# Altium footprint library PowerLib.PcbLib: 17 footprints (part 1 of 2)
Each footprint in its own frame and in the unit in brackets; x right, y up, seen from the top. Pads: shape width x height; smd on the part's side, far side on the other; paste and mask are expansions set on the pad; w line width, h text height; cw(c..) or ccw(c..) is an arc to the next point about the centre after c.
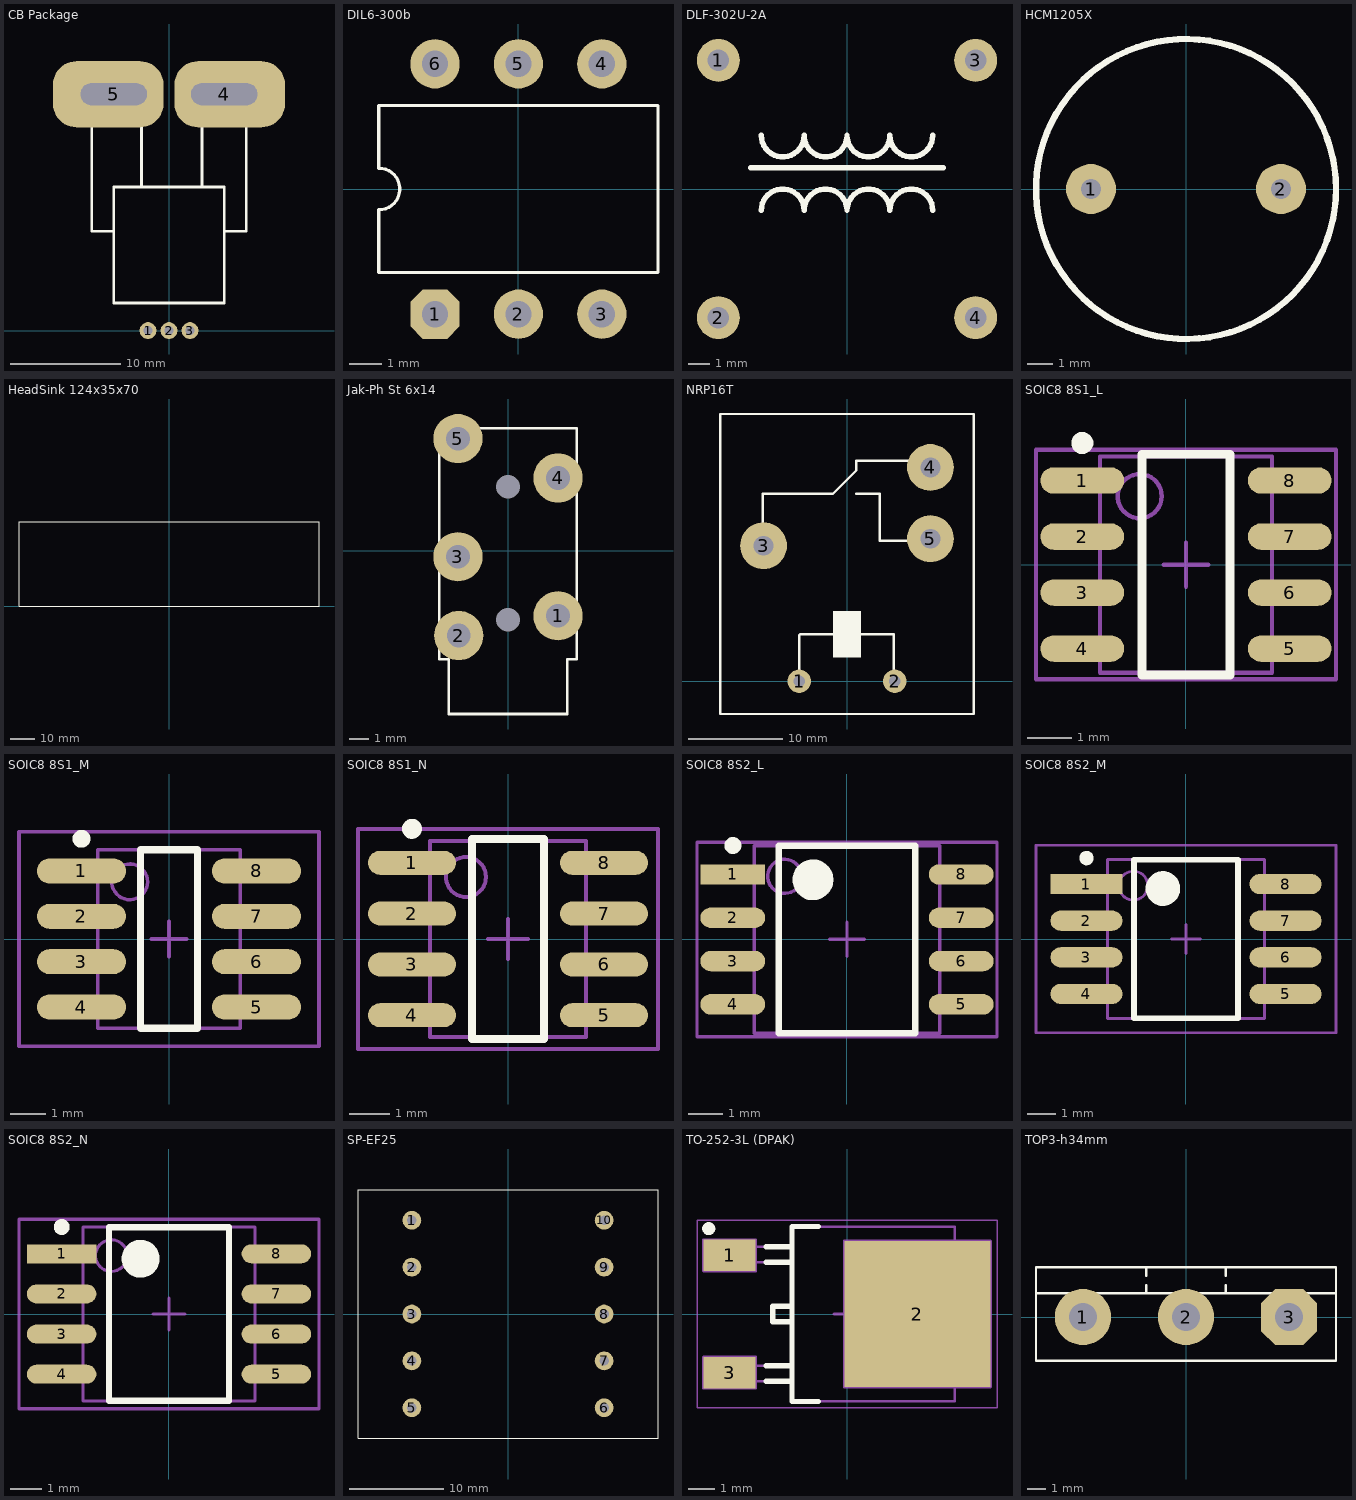
[diagram p0: the footprints below, top view; thin cyan lines are the x and y axes]

## CB Package [mm]
height 10
pads (5):
  round 1.524 hole 0.8: 1(-1.9,0) 2(0,0) 3(1.9,0)
  rrect70% 10x6 hole 2 slot 6 at 0 deg copper offset 0.5,0: 4(5,21.4)
  rrect70% 10x6 hole 2 slot 6 at 0 deg copper offset -0.5,0: 5(-5,21.4)
Top Overlay:
  lines w0.254: -5,9 -7,9 -7,22.5 -2.5,22.5 -2.5,13 ; 3,13 3,22.5 7,22.5 7,9 5,9 ; -5,2.5 -5,13 5,13 5,2.5 -5,2.5

## DIL6-300b [mm]
pads (6):
  oct 1.5x1.5 hole 0.8: 1(-2.54,-3.81)
  round 1.5 hole 0.8: 2(0,-3.81) 3(2.54,-3.81) 4(2.54,3.81) 5(0,3.81) 6(-2.54,3.81)
Top Overlay:
  lines w0.1: -4.25,-2.54 4.25,-2.54 4.25,2.54 -4.25,2.54 -4.25,0.635 cw(c-4.25,0) -4.25,-0.635 -4.25,-2.54
3D body: height 4.25, standoff -2.5, extent -4.25,-3.96 4.25,3.96

## DLF-302U-2A [mm]
height 30
pads (4):
  round 2 hole 1: 1(-6,6) 2(-6,-6) 3(6,6) 4(6,-6)
Top Overlay:
  lines w0.254: -4.5,1 4.5,1 ; -4,-1 cw(c-3,-1) -2,-1 cw(c-1,-1) 0,-1 cw(c1,-1) 2,-1 cw(c3,-1) 4,-1 ; -4,2.5 ccw(c-3,2.5) -2,2.5 ccw(c-1,2.5) 0,2.5 ccw(c1,2.5) 2,2.5 ccw(c3,2.5) 4,2.5

## HCM1205X [mm]
height 10
pads (2):
  round 2 hole 0.8: 1(-3.8,0) 2(3.8,0)
Top Overlay:
  circle w0.254: c0,0 r6
3D body: height 10, standoff 0, extent -6,-5.998 6,5.998

## HeadSink 124x35x70 [mm]
height 70
Top Overlay:
  lines w0.127: -62,0 62,0 62,35 -62,35 -62,0
3D body: height 70, standoff 0, extent -62.02,0 62.02,35.02

## Jak-Ph St 6x14 [mm]
height 5
pads (7):
  round 0 hole 1.2 unplated: 0(0,-3.5) 0(0,3.25)
  round 2.5 hole 1.2 paste+0 mask+0.102: 1(2.54,-3.3)
  round 2.5 hole 1.2: 2(-2.5,-4.3) 3(-2.54,-0.3) 4(2.54,3.7) 5(-2.54,5.7)
Top Overlay:
  lines w0.127: -3.5,-5.5 -3.5,6.215 3.5,6.215 3.5,-5.5 3,-5.5 3,-8.285 -3,-8.285 -3,-5.5 -3.5,-5.5
3D body: height 6, standoff -2.5, extent -3.5,-8.285 3.5,6.215

## NRP16T [mm] "NRP16T Relay series foot print"
height 28
pads (5):
  round 2.5 hole 1.2: 1(-5.1,0) 2(5.1,0)
  round 5 hole 2.1: 3(-8.9,14.46) 4(8.9,22.8) 5(8.9,15.2)
Top Overlay:
  rectangle: -1.5,2.5 1.5,7.5
  lines w0.254: -9,16 -9,20 -2.5,20 -1.5,20 1,22.5 1,23.5 7.5,23.5 ; -5.1,0 -5.1,4.9 -5,5 -1.5,5 ; 1,20 3.5,20 3.5,15 8.5,15 ; 1.5,5 5,5 5,0.5 ; -13.5,-3.5 13.5,-3.5 13.5,28.5 -13.5,28.5 -13.5,-3.5

## SOIC8 8S1_L [mm] "SOIC, 8-Leads, Body 4.9x3.9mm, Pitch 1.27mm, IPC High Density"
height 1.75
pads (8):
  oval 1.9x0.6 smd: 1(-2.35,1.905) 2(-2.35,0.635) 3(-2.35,-0.635) 4(-2.35,-1.905) 5(2.35,-1.905) 6(2.35,-0.635) 7(2.35,0.635) 8(2.35,1.905)
Top Overlay:
  circle w0.25: c-2.35,2.755 r0.125
  lines w0.2: -1,-2.5 -1,2.5 1,2.5 1,-2.5 -1,-2.5
Mechanical 14:
  circle w0.1: c-1.05,1.55 r0.5
  lines w0.1: -1.95,-2.45 -1.95,2.45 1.95,2.45 1.95,-2.45 -1.95,-2.45
Mechanical 15:
  lines w0.1: -0.5,0 0.5,0 ; 0,-0.5 0,0.5 ; -3.4,-2.6 -3.4,2.6 3.4,2.6 3.4,-2.6 -3.4,-2.6
3D body: height 1.75, standoff 0, extent -1.95,-2.45 1.95,2.45

## SOIC8 8S1_M [mm] "SOIC, 8-Leads, Body 4.9x3.9mm, Pitch 1.27mm, IPC Low Density"
height 1.75
pads (8):
  oval 2.5x0.7 smd: 1(-2.45,1.905) 2(-2.45,0.635) 3(-2.45,-0.635) 4(-2.45,-1.905) 5(2.45,-1.905) 6(2.45,-0.635) 7(2.45,0.635) 8(2.45,1.905)
Top Overlay:
  circle w0.25: c-2.45,2.805 r0.125
  lines w0.2: -0.8,-2.5 -0.8,2.5 0.8,2.5 0.8,-2.5 -0.8,-2.5
Mechanical 14:
  circle w0.1: c-1.1,1.6 r0.5
  lines w0.1: -2,-2.5 -2,2.5 2,2.5 2,-2.5 -2,-2.5
Mechanical 15:
  lines w0.1: -0.5,0 0.5,0 ; 0,-0.5 0,0.5 ; -4.2,-3 -4.2,3 4.2,3 4.2,-3 -4.2,-3
3D body: height 1.75, standoff 0, extent -2,-2.5 2,2.5

## SOIC8 8S1_N [mm] "SOIC, 8-Leads, Body 4.9x3.9mm, Pitch 1.27mm, IPC Medium Density"
height 1.75
pads (8):
  oval 2.2x0.6 smd: 1(-2.4,1.905) 2(-2.4,0.635) 3(-2.4,-0.635) 4(-2.4,-1.905) 5(2.4,-1.905) 6(2.4,-0.635) 7(2.4,0.635) 8(2.4,1.905)
Top Overlay:
  circle w0.25: c-2.4,2.755 r0.125
  lines w0.2: -0.9,-2.5 -0.9,2.5 0.9,2.5 0.9,-2.5 -0.9,-2.5
Mechanical 14:
  circle w0.1: c-1.05,1.55 r0.5
  lines w0.1: -1.95,-2.45 -1.95,2.45 1.95,2.45 1.95,-2.45 -1.95,-2.45
Mechanical 15:
  lines w0.1: -0.5,0 0.5,0 ; 0,-0.5 0,0.5 ; -3.75,-2.75 -3.75,2.75 3.75,2.75 3.75,-2.75 -3.75,-2.75
3D body: height 1.75, standoff 0, extent -1.95,-2.45 1.95,2.45

## SOIC8 8S2_L [mm] "8-Pin Small Outline Package 1.27 mm Pitch, IPC High Density"
height 2.03
pads (8):
  rect 1.9x0.6 smd: 1(-3.35,1.905)
  oval 1.9x0.6 smd: 2(-3.35,0.635) 3(-3.35,-0.635) 4(-3.35,-1.905) 5(3.35,-1.905) 6(3.35,-0.635) 7(3.35,0.635) 8(3.35,1.905)
Top Overlay:
  circle w0.25: c-3.35,2.755 r0.125
  circle w0.6: c-1,1.75 r0.3
  lines w0.2: -2,-2.75 -2,2.75 2,2.75 2,-2.75 -2,-2.75
Mechanical 14:
  circle w0.1: c-1.825,1.85 r0.5
  lines w0.1: -2.725,-2.75 -2.725,2.75 2.725,2.75 2.725,-2.75 -2.725,-2.75
Mechanical 15:
  lines w0.1: -0.5,0 0.5,0 ; 0,-0.5 0,0.5 ; -4.4,-2.85 -4.4,2.85 4.4,2.85 4.4,-2.85 -4.4,-2.85
3D body: height 2.03, standoff 0, extent -2.725,-2.75 2.725,2.75

## SOIC8 8S2_M [mm] "8-Pin Small Outline Package 1.27 mm Pitch, IPC Low Density"
height 2.03
pads (8):
  rect 2.5x0.7 smd: 1(-3.45,1.905)
  oval 2.5x0.7 smd: 2(-3.45,0.635) 3(-3.45,-0.635) 4(-3.45,-1.905) 5(3.45,-1.905) 6(3.45,-0.635) 7(3.45,0.635) 8(3.45,1.905)
Top Overlay:
  circle w0.25: c-3.45,2.805 r0.125
  circle w0.6: c-0.8,1.75 r0.3
  lines w0.2: -1.8,-2.75 -1.8,2.75 1.8,2.75 1.8,-2.75 -1.8,-2.75
Mechanical 14:
  circle w0.1: c-1.825,1.85 r0.5
  lines w0.1: -2.725,-2.75 -2.725,2.75 2.725,2.75 2.725,-2.75 -2.725,-2.75
Mechanical 15:
  lines w0.1: -0.5,0 0.5,0 ; 0,-0.5 0,0.5 ; -5.2,-3.25 -5.2,3.25 5.2,3.25 5.2,-3.25 -5.2,-3.25
3D body: height 2.03, standoff 0, extent -2.725,-2.75 2.725,2.75

## SOIC8 8S2_N [mm] "8-Pin Small Outline Package 1.27 mm Pitch, IPC Medium Density"
height 2.03
pads (8):
  rect 2.2x0.6 smd: 1(-3.4,1.905)
  oval 2.2x0.6 smd: 2(-3.4,0.635) 3(-3.4,-0.635) 4(-3.4,-1.905) 5(3.4,-1.905) 6(3.4,-0.635) 7(3.4,0.635) 8(3.4,1.905)
Top Overlay:
  circle w0.25: c-3.4,2.755 r0.125
  circle w0.6: c-0.9,1.75 r0.3
  lines w0.2: -1.9,-2.75 -1.9,2.75 1.9,2.75 1.9,-2.75 -1.9,-2.75
Mechanical 14:
  circle w0.1: c-1.825,1.85 r0.5
  lines w0.1: -2.725,-2.75 -2.725,2.75 2.725,2.75 2.725,-2.75 -2.725,-2.75
Mechanical 15:
  lines w0.1: -0.5,0 0.5,0 ; 0,-0.5 0,0.5 ; -4.75,-3 -4.75,3 4.75,3 4.75,-3 -4.75,-3
3D body: height 2.03, standoff 0, extent -2.725,-2.75 2.725,2.75

## SP-EF25 [mm]
height 30
pads (10):
  round 2 hole 1: 1(-10.25,10) 2(-10.25,5) 3(-10.25,0) 4(-10.25,-5) 5(-10.25,-10) 6(10.25,-10) 7(10.25,-5) 8(10.25,0) 9(10.25,5) 10(10.25,10)
Top Overlay:
  lines w0.1: -16,-13.25 -16,13.25 16,13.25 16,-13.25 -16,-13.25
3D body: height 9.5, standoff 0, extent -16,-13.25 -9.5,13.25
3D body: height 9.5, standoff 0, extent 7,-13.25 16,13.25
3D body: height 21.5, standoff 9.5, extent -12.5,-9 -9.5,9
3D body: height 21.5, standoff 9.5, extent 7,-9 10,9
3D body: height 17, standoff 10, extent -14,-12.5 11,12.5
3D body: height 21, standoff 6, extent -9.5,-8 7,8

## TO-252-3L (DPAK) [mm] "DPAK TO-252, 2.28mm pitch; 2 pin, 9.7mm L X 6.7mm W X 2.40mm H body"
height 2.4
pads (3):
  rect 2x1.2 smd: 1(-4.5,2.25) 3(-4.5,-2.25)
  rect 5.6x5.6 smd: 2(2.7,0)
Top Overlay:
  circle w0.25: c-5.3,3.27 r0.125
  lines w0.2: -3.1,-2.58 -2.104,-2.58 ; -3.1,-1.98 -2.104,-1.98 ; -3.1,1.98 -2.104,1.98 ; -3.1,2.58 -2.104,2.58 ; -2.104,-0.3 -2.844,-0.3 -2.844,0.3 -2.104,0.3 ; -1.104,-3.35 -2.104,-3.35 -2.104,3.35 -1.104,3.35
Top Paste:
  region: 0.47,-2.05 2.35,-2.05 2.35,-0.35 0.47,-0.35
  region: 3.05,-2.05 4.93,-2.05 4.93,-0.35 3.05,-0.35
  region: 0.47,0.35 2.35,0.35 2.35,2.05 0.47,2.05
  region: 3.05,0.35 4.93,0.35 4.93,2.05 3.05,2.05
Mechanical 8:
  lines w0.1: -5,-2.25 -4.5,-2.25 ; -5,2.25 -4.5,2.25 ; -4.5,-2.75 -4.5,-2.25 ; -4.5,-1.75 -4.5,-2.25 ; -4.5,1.75 -4.5,2.25 ; -4.5,2.75 -4.5,2.25 ; -4,-2.25 -4.5,-2.25 ; -4,2.25 -4.5,2.25 ; -0.5,0 0,0 ; 0,-0.5 0,0 ; 0,0.5 0,0 ; 0.5,0 0,0 ; 2.2,0 2.7,0 ; 2.7,-0.5 2.7,0 ; 2.7,0.5 2.7,0 ; 3.2,0 2.7,0 ; -5.5,-2.85 -5.5,-1.65 -3.5,-1.65 -3.5,-2.85 -5.5,-2.85 ; -5.5,1.65 -5.5,2.85 -3.5,2.85 -3.5,1.65 -5.5,1.65 ; -0.1,-2.8 -0.1,2.8 5.5,2.8 5.5,-2.8 -0.1,-2.8
Mechanical 14:
  lines w0.1: -2.104,-2.58 -5.2,-2.58 -5.2,-1.98 -2.104,-1.98 ; -2.104,-0.3 -2.844,-0.3 -2.844,0.3 -2.104,0.3 ; -2.104,1.98 -5.2,1.98 -5.2,2.58 -2.104,2.58 ; 4.125,-2.7 4.8,-2.7 ccw(c4.8,-2.3) 5.2,-2.3 5.2,2.3 ccw(c4.8,2.3) 4.8,2.7 4.125,2.7 ; -2.104,-3.35 4.125,-3.35 4.125,3.35 -2.104,3.35 -2.104,-3.35
Mechanical 15:
  lines w0.05: -5.75,-3.6 -5.75,3.6 5.75,3.6 5.75,-3.6 -5.75,-3.6
3D body: height 2.4, standoff 0, extent -5.2,-3.35 5.2,3.35

## TOP3-h34mm [mm]
height 34
pads (3):
  round 3 hole 1.5: 1(-5.5,0) 2(0,0)
  oct 3x3 hole 1.5: 3(5.5,0)
Top Overlay:
  lines w0.127: -8,1.27 8,1.27 ; -2.117,1.27 -2.117,1.693 ; -2.117,2.2 -2.117,2.667 ; 2.117,1.27 2.117,1.693 ; 2.117,2.2 2.117,2.667 ; -8,-2.34 8,-2.34 8,2.667 -8,2.667 -8,-2.34
3D body: height 32.2, standoff -2.8, extent -8,-2.34 8,2.66